# Altium footprint library Transformers.PcbLib: 5 footprints
Each footprint in its own frame and in the unit in brackets; x right, y up, seen from the top. Pads: shape width x height; smd on the part's side, far side on the other; paste and mask are expansions set on the pad; w line width, h text height; cw(c..) or ccw(c..) is an arc to the next point about the centre after c.
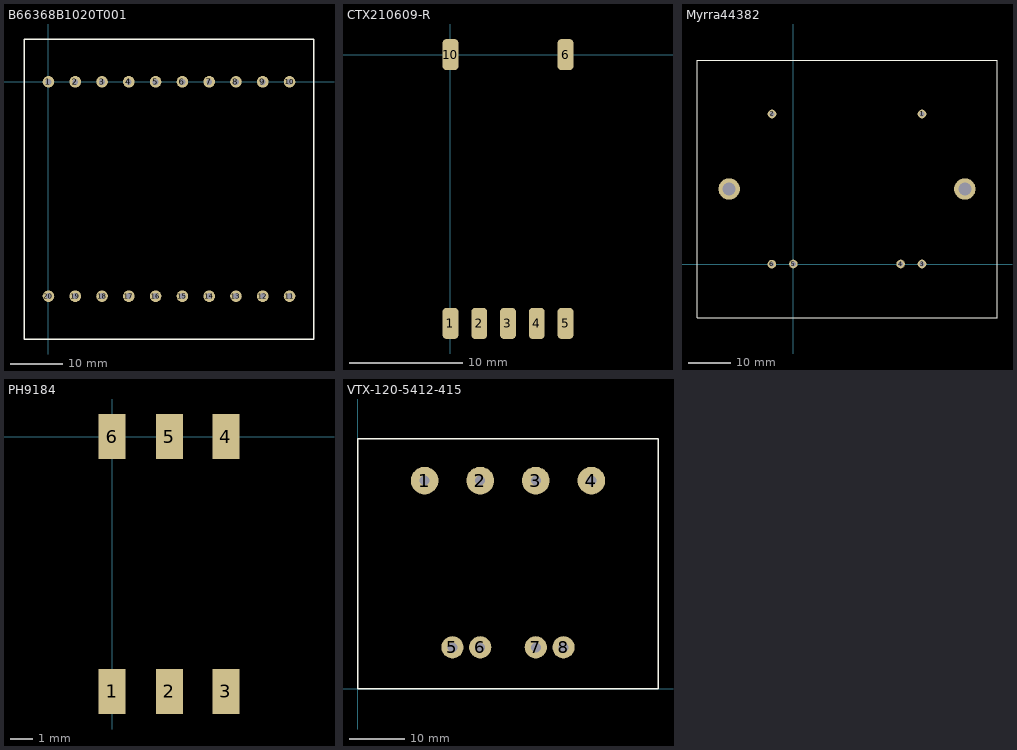
[diagram p0: the footprints below, top view; thin cyan lines are the x and y axes]

## B66368B1020T001 [mm] "ETD 49/25/16 Coil Former"
pads (20):
  round 2.2 hole 1.1: 1(0,0) 2(5.08,0) 3(10.16,0) 4(15.24,0) 5(20.32,0) 6(25.4,0) 7(30.48,0) 8(35.56,0) 9(40.64,0) 10(45.72,0) 11(45.72,-40.64) 12(40.64,-40.64) 13(35.56,-40.64) 14(30.48,-40.64) 15(25.4,-40.64) 16(20.32,-40.64) 17(15.24,-40.64) 18(10.16,-40.64) 19(5.08,-40.64) 20(0,-40.64)
Top Overlay:
  lines w0.254: -4.572,-48.768 -4.572,8.128 50.292,8.128 50.292,-48.768 -4.572,-48.768

## CTX210609-R [mm] "Royer Transformer Type C"
pads (7):
  rrect50% 1.4x2.75 smd: 1(0,-23.75) 2(2.54,-23.75) 3(5.08,-23.75) 4(7.62,-23.75) 5(10.16,-23.749) 6(10.16,0) 10(0,0)
3D body: height 5.5, standoff 0, extent -3,-22.5 13.5,-1

## Myrra44382 [mm] "240-12Vtransformer"
height 50
pads (8):
  round 2 / inner oval 2x1.524 / far side oval 2x1.524 hole 1.1: 1(30,35) 3(30,0) 4(25,0) 5(0,0)
  round 2 hole 1.1: 2(-5,35) 6(-5.026,-0.026)
  round 5 hole 3: ""(-15,17.5) ""(40,17.5)
Top Overlay:
  lines w0.254: -22.5,47.5 -22.5,-12.5 47.5,-12.5 47.5,47.5 -22.3,47.5
3D body: height 55, standoff 4, extent -20,-10 45,45
3D body: height 45, standoff 3.1, extent -22.5,-12.5 47.5,47.5

## PH9184 [mm] "High Isolation Power Transformers"
height 12.5
pads (6):
  rect 1.2x2 smd: 1(0,-11.31) 2(2.54,-11.31) 3(5.04,-11.31) 4(5.04,0) 5(2.54,0) 6(0,0)
3D body: height 12.5, standoff 0, extent -2.746,-11.5 7.754,0.5

## VTX-120-5412-415 [mm] "0,15,0,15"
height 43
pads (8):
  round 5 hole 1.8: 1(12,37.5) 2(22,37.5) 3(32,37.5) 4(42,37.5)
  round 4 hole 1.8: 5(17,7.5) 6(22,7.5) 7(32,7.5) 8(37,7.5)
Top Overlay:
  lines w0.25: 0,0 0,45 54,45 54,33.75 54,11.25 54,0 27,0 0,0
3D body: height 40, standoff 30, extent 7.5,7.5 45,37.5
3D body: height 10, standoff 0, extent 7.5,7.5 45,37.5
3D body: height 30, standoff 10, extent 0,0 54,45